# Altium footprint library LT3030HUFDPBF.PcbLib: 3 footprints
Each footprint in its own frame and in the unit in brackets; x right, y up, seen from the top. Pads: shape width x height; smd on the part's side, far side on the other; paste and mask are expansions set on the pad; w line width, h text height; cw(c..) or ccw(c..) is an arc to the next point about the centre after c.
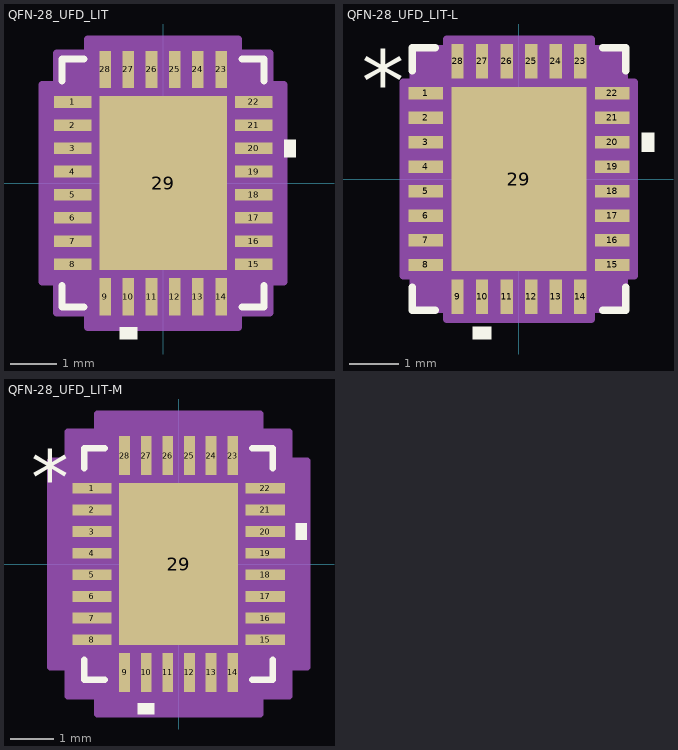
[diagram p0: the footprints below, top view; thin cyan lines are the x and y axes]

## QFN-28_UFD_LIT [mm]
pads (29):
  rect 0.805x0.249 smd paste+0 mask+0: 1(-1.952,1.75) 2(-1.952,1.25) 3(-1.952,0.75) 4(-1.952,0.25) 5(-1.952,-0.25) 6(-1.952,-0.75) 7(-1.952,-1.25) 8(-1.952,-1.75) 15(1.952,-1.75) 16(1.952,-1.25) 17(1.952,-0.75) 18(1.952,-0.25) 19(1.952,0.25) 20(1.952,0.75) 21(1.952,1.25) 22(1.952,1.75)
  rect 0.249x0.805 smd paste+0 mask+0: 9(-1.25,-2.452) 10(-0.75,-2.452) 11(-0.25,-2.452) 12(0.25,-2.452) 13(0.75,-2.452) 14(1.25,-2.452) 23(1.25,2.452) 24(0.75,2.452) 25(0.25,2.452) 26(-0.25,2.452) 27(-0.75,2.452) 28(-1.25,2.452)
  rect 2.75x3.75 smd paste-1.375 mask+0: 29(0,0)
Top Overlay:
  region: 2.609,0.941 2.863,0.941 2.863,0.56 2.609,0.56
  region: -0.56,-3.109 -0.941,-3.109 -0.941,-3.363 -0.56,-3.363
  lines w0.152: -2.177,-2.207 -2.177,-2.677 -1.707,-2.677 ; -2.177,2.207 -2.177,2.677 -1.707,2.677 ; 1.707,-2.677 2.177,-2.677 2.177,-2.207 ; 1.707,2.677 2.177,2.677 2.177,2.207
Top Paste:
  region: 1.275,-0.1 0.1,-0.1 0.1,-1.775 1.275,-1.775
  region: 1.275,1.775 0.1,1.775 0.1,0.1 1.275,0.1
  region: -0.1,-0.1 -1.275,-0.1 -1.275,-1.775 -0.1,-1.775
  region: -0.1,1.775 -1.275,1.775 -1.275,0.1 -0.1,0.1
Mechanical 13:
  lines w0.025: -2.05,1.28 -0.78,2.55 ; -2.05,-2.55 -2.05,2.55 2.05,2.55 2.05,-2.55 -2.05,-2.55 ; -2.05,-1.9 -2.05,-1.6 -2.05,-1.9 ; -2.05,-1.4 -2.05,-1.1 -2.05,-1.4 ; -2.05,-0.9 -2.05,-0.6 -2.05,-0.9 ; -2.05,-0.4 -2.05,-0.1 -2.05,-0.4 ; -2.05,0.1 -2.05,0.4 -2.05,0.1 ; -2.05,0.6 -2.05,0.9 -2.05,0.6 ; -2.05,1.1 -2.05,1.4 -2.05,1.1 ; -2.05,1.6 -2.05,1.9 -2.05,1.6 ; -1.4,-2.55 -1.1,-2.55 -1.4,-2.55 ; -1.4,2.55 -1.1,2.55 -1.4,2.55 ; -0.9,-2.55 -0.6,-2.55 -0.9,-2.55 ; -0.9,2.55 -0.6,2.55 -0.9,2.55 ; -0.4,-2.55 -0.1,-2.55 -0.4,-2.55 ; -0.4,2.55 -0.1,2.55 -0.4,2.55 ; 0.1,-2.55 0.4,-2.55 0.1,-2.55 ; 0.1,2.55 0.4,2.55 0.1,2.55 ; 0.6,-2.55 0.9,-2.55 0.6,-2.55 ; 0.6,2.55 0.9,2.55 0.6,2.55 ; 1.1,-2.55 1.4,-2.55 1.1,-2.55 ; 1.1,2.55 1.4,2.55 1.1,2.55 ; 2.05,-1.9 2.05,-1.6 2.05,-1.9 ; 2.05,-1.4 2.05,-1.1 2.05,-1.4 ; 2.05,-0.9 2.05,-0.6 2.05,-0.9 ; 2.05,-0.4 2.05,-0.1 2.05,-0.4 ; 2.05,0.1 2.05,0.4 2.05,0.1 ; 2.05,0.6 2.05,0.9 2.05,0.6 ; 2.05,1.1 2.05,1.4 2.05,1.1 ; 2.05,1.6 2.05,1.9 2.05,1.6
  text "*" at -1.867,1.365 h1.27
Mechanical 15:
  region: -1.629,-2.804 -2.304,-2.804 -2.304,-2.129 -2.609,-2.129 -2.609,2.129 -2.304,2.129 -2.304,2.804 -1.629,2.804 -1.629,3.109 1.629,3.109 1.629,2.804 2.304,2.804 2.304,2.129 2.609,2.129 2.609,-2.129 2.304,-2.129 2.304,-2.804 1.629,-2.804 1.629,-3.109 -1.629,-3.109
  lines w0.152: -2.609,-2.129 -2.609,2.129 -2.304,2.129 -2.304,2.804 -1.629,2.804 -1.629,3.109 1.629,3.109 1.629,2.804 2.304,2.804 2.304,2.129 2.609,2.129 2.609,-2.129 2.304,-2.129 2.304,-2.804 1.629,-2.804 1.629,-3.109 -1.629,-3.109 -1.629,-2.804 -2.304,-2.804 -2.304,-2.129 -2.609,-2.129
3D body "QFN-28_UFD_LIT.step": height 0.8, standoff 0, extent -2.05,-2.55 2.05,2.55

## QFN-28_UFD_LIT-L [mm]
pads (29):
  rect 0.703x0.249 smd paste+0 mask+0: 1(-1.902,1.75) 2(-1.902,1.25) 3(-1.902,0.75) 4(-1.902,0.25) 5(-1.902,-0.25) 6(-1.902,-0.75) 7(-1.902,-1.25) 8(-1.902,-1.75) 15(1.902,-1.75) 16(1.902,-1.25) 17(1.902,-0.75) 18(1.902,-0.25) 19(1.902,0.25) 20(1.902,0.75) 21(1.902,1.25) 22(1.902,1.75)
  rect 0.249x0.703 smd paste+0 mask+0: 9(-1.25,-2.402) 10(-0.75,-2.402) 11(-0.25,-2.402) 12(0.25,-2.402) 13(0.75,-2.402) 14(1.25,-2.402) 23(1.25,2.402) 24(0.75,2.402) 25(0.25,2.402) 26(-0.25,2.402) 27(-0.75,2.402) 28(-1.25,2.402)
  rect 2.75x3.75 smd paste-1.375 mask+0: 29(0,0)
Top Overlay:
  region: -0.56,-3.007 -0.941,-3.007 -0.941,-3.261 -0.56,-3.261
  region: 2.507,0.941 2.761,0.941 2.761,0.56 2.507,0.56
  lines w0.152: -2.177,-2.207 -2.177,-2.677 -1.707,-2.677 ; -2.177,2.207 -2.177,2.677 -1.707,2.677 ; 1.707,-2.677 2.177,-2.677 2.177,-2.207 ; 1.707,2.677 2.177,2.677 2.177,2.207
  text "*" at -3.206,1.365 h1.27
Top Paste:
  region: -0.1,1.775 -1.275,1.775 -1.275,0.1 -0.1,0.1
  region: -0.1,-0.1 -1.275,-0.1 -1.275,-1.775 -0.1,-1.775
  region: 1.275,1.775 0.1,1.775 0.1,0.1 1.275,0.1
  region: 1.275,-0.1 0.1,-0.1 0.1,-1.775 1.275,-1.775
Mechanical 13:
  lines w0.025: -2.05,1.28 -0.78,2.55 ; -2.05,-2.55 2.05,-2.55 ; -2.05,-2.55 -2.05,2.55 ; -2.05,-2.55 -2.05,-2.55 ; -2.05,-1.9 -2.05,-1.6 ; -2.05,-1.9 -2.05,-1.6 ; -2.05,-1.9 -2.05,-1.9 ; -2.05,-1.6 -2.05,-1.6 ; -2.05,-1.4 -2.05,-1.1 ; -2.05,-1.4 -2.05,-1.1 ; -2.05,-1.4 -2.05,-1.4 ; -2.05,-1.1 -2.05,-1.1 ; -2.05,-0.9 -2.05,-0.6 ; -2.05,-0.9 -2.05,-0.6 ; -2.05,-0.9 -2.05,-0.9 ; -2.05,-0.6 -2.05,-0.6 ; -2.05,-0.4 -2.05,-0.1 ; -2.05,-0.4 -2.05,-0.1 ; -2.05,-0.4 -2.05,-0.4 ; -2.05,-0.1 -2.05,-0.1 ; -2.05,0.1 -2.05,0.4 ; -2.05,0.1 -2.05,0.4 ; -2.05,0.1 -2.05,0.1 ; -2.05,0.4 -2.05,0.4 ; -2.05,0.6 -2.05,0.9 ; -2.05,0.6 -2.05,0.9 ; -2.05,0.6 -2.05,0.6 ; -2.05,0.9 -2.05,0.9 ; -2.05,1.1 -2.05,1.4 ; -2.05,1.1 -2.05,1.4 ; -2.05,1.1 -2.05,1.1 ; -2.05,1.4 -2.05,1.4 ; -2.05,1.6 -2.05,1.9 ; -2.05,1.6 -2.05,1.9 ; -2.05,1.6 -2.05,1.6 ; -2.05,1.9 -2.05,1.9 ; -2.05,2.55 2.05,2.55 ; -2.05,2.55 -2.05,2.55 ; -1.4,-2.55 -1.1,-2.55 ; -1.4,-2.55 -1.4,-2.55 ; -1.4,-2.55 -1.1,-2.55 ; -1.4,2.55 -1.1,2.55 ; -1.4,2.55 -1.1,2.55 ; -1.4,2.55 -1.4,2.55 ; -1.1,-2.55 -1.1,-2.55 ; -1.1,2.55 -1.1,2.55 ; -0.9,-2.55 -0.6,-2.55 ; -0.9,-2.55 -0.9,-2.55 ; -0.9,-2.55 -0.6,-2.55 ; -0.9,2.55 -0.6,2.55 ; -0.9,2.55 -0.6,2.55 ; -0.9,2.55 -0.9,2.55 ; -0.6,-2.55 -0.6,-2.55 ; -0.6,2.55 -0.6,2.55 ; -0.4,-2.55 -0.1,-2.55 ; -0.4,-2.55 -0.4,-2.55 ; -0.4,-2.55 -0.1,-2.55 ; -0.4,2.55 -0.1,2.55 ; -0.4,2.55 -0.1,2.55 ; -0.4,2.55 -0.4,2.55 ; -0.1,-2.55 -0.1,-2.55 ; -0.1,2.55 -0.1,2.55 ; 0.1,-2.55 0.4,-2.55 ; 0.1,-2.55 0.1,-2.55 ; 0.1,-2.55 0.4,-2.55 ; 0.1,2.55 0.4,2.55 ; 0.1,2.55 0.4,2.55 ; 0.1,2.55 0.1,2.55 ; 0.4,-2.55 0.4,-2.55 ; 0.4,2.55 0.4,2.55 ; 0.6,-2.55 0.9,-2.55 ; 0.6,-2.55 0.6,-2.55 ; 0.6,-2.55 0.9,-2.55 ; 0.6,2.55 0.9,2.55 ; 0.6,2.55 0.9,2.55 ; 0.6,2.55 0.6,2.55 ; 0.9,-2.55 0.9,-2.55 ; 0.9,2.55 0.9,2.55 ; 1.1,-2.55 1.4,-2.55 ; 1.1,-2.55 1.1,-2.55 ; 1.1,-2.55 1.4,-2.55 ; 1.1,2.55 1.4,2.55 ; 1.1,2.55 1.4,2.55 ; 1.1,2.55 1.1,2.55 ; 1.4,-2.55 1.4,-2.55 ; 1.4,2.55 1.4,2.55 ; 2.05,-2.55 2.05,-2.55 ; 2.05,-2.55 2.05,2.55 ; 2.05,-1.9 2.05,-1.6 ; 2.05,-1.9 2.05,-1.9 ; 2.05,-1.9 2.05,-1.6 ; 2.05,-1.6 2.05,-1.6 ; 2.05,-1.4 2.05,-1.1 ; 2.05,-1.4 2.05,-1.4 ; 2.05,-1.4 2.05,-1.1 ; 2.05,-1.1 2.05,-1.1 ; 2.05,-0.9 2.05,-0.6 ; 2.05,-0.9 2.05,-0.9 ; 2.05,-0.9 2.05,-0.6 ; 2.05,-0.6 2.05,-0.6 ; 2.05,-0.4 2.05,-0.1 ; 2.05,-0.4 2.05,-0.4 ; 2.05,-0.4 2.05,-0.1 ; 2.05,-0.1 2.05,-0.1 ; 2.05,0.1 2.05,0.4 ; 2.05,0.1 2.05,0.1 ; 2.05,0.1 2.05,0.4 ; 2.05,0.4 2.05,0.4 ; 2.05,0.6 2.05,0.9 ; 2.05,0.6 2.05,0.6 ; 2.05,0.6 2.05,0.9 ; 2.05,0.9 2.05,0.9 ; 2.05,1.1 2.05,1.4 ; 2.05,1.1 2.05,1.1 ; 2.05,1.1 2.05,1.4 ; 2.05,1.4 2.05,1.4 ; 2.05,1.6 2.05,1.9 ; 2.05,1.6 2.05,1.6 ; 2.05,1.6 2.05,1.9 ; 2.05,1.9 2.05,1.9 ; 2.05,2.55 2.05,2.55
  text "*" at -1.867,1.365 h1.27
Mechanical 15:
  region: -1.476,-2.652 -2.152,-2.652 -2.152,-1.976 -2.355,-1.976 -2.355,1.976 -2.152,1.976 -2.152,2.652 -1.476,2.652 -1.476,2.855 1.476,2.855 1.476,2.652 2.152,2.652 2.152,1.976 2.355,1.976 2.355,-1.976 2.152,-1.976 2.152,-2.652 1.476,-2.652 1.476,-2.855 -1.476,-2.855
  lines w0.152: -2.355,-1.976 -2.152,-1.976 -2.152,-2.652 -1.476,-2.652 -1.476,-2.855 1.476,-2.855 1.476,-2.652 2.152,-2.652 2.152,-1.976 2.355,-1.976 2.355,1.976 2.152,1.976 2.152,2.652 1.476,2.652 1.476,2.855 -1.476,2.855 -1.476,2.652 -2.152,2.652 -2.152,1.976 -2.355,1.976 -2.355,-1.976
3D body "QFN-28_UFD_LIT.step": height 0.8, standoff 0, extent -2.05,-2.55 2.05,2.55

## QFN-28_UFD_LIT-M [mm]
pads (29):
  rect 0.906x0.249 smd paste+0 mask+0: 1(-2.003,1.75) 2(-2.003,1.25) 3(-2.003,0.75) 4(-2.003,0.25) 5(-2.003,-0.25) 6(-2.003,-0.75) 7(-2.003,-1.25) 8(-2.003,-1.75) 15(2.003,-1.75) 16(2.003,-1.25) 17(2.003,-0.75) 18(2.003,-0.25) 19(2.003,0.25) 20(2.003,0.75) 21(2.003,1.25) 22(2.003,1.75)
  rect 0.249x0.906 smd paste+0 mask+0: 9(-1.25,-2.503) 10(-0.75,-2.503) 11(-0.25,-2.503) 12(0.25,-2.503) 13(0.75,-2.503) 14(1.25,-2.503) 23(1.25,2.503) 24(0.75,2.503) 25(0.25,2.503) 26(-0.25,2.503) 27(-0.75,2.503) 28(-1.25,2.503)
  rect 2.75x3.75 smd paste-1.375 mask+0: 29(0,0)
Top Overlay:
  region: -0.56,-3.21 -0.941,-3.21 -0.941,-3.464 -0.56,-3.464
  region: 2.71,0.941 2.964,0.941 2.964,0.56 2.71,0.56
  lines w0.152: -2.177,-2.207 -2.177,-2.677 -1.707,-2.677 ; -2.177,2.207 -2.177,2.677 -1.707,2.677 ; 1.707,-2.677 2.177,-2.677 2.177,-2.207 ; 1.707,2.677 2.177,2.677 2.177,2.207
  text "*" at -3.409,1.365 h1.27
Top Paste:
  region: -0.1,1.775 -1.275,1.775 -1.275,0.1 -0.1,0.1
  region: -0.1,-0.1 -1.275,-0.1 -1.275,-1.775 -0.1,-1.775
  region: 1.275,1.775 0.1,1.775 0.1,0.1 1.275,0.1
  region: 1.275,-0.1 0.1,-0.1 0.1,-1.775 1.275,-1.775
Mechanical 13:
  lines w0.025: -2.05,1.28 -0.78,2.55 ; -2.05,-2.55 2.05,-2.55 ; -2.05,-2.55 -2.05,2.55 ; -2.05,-2.55 -2.05,-2.55 ; -2.05,-1.9 -2.05,-1.6 ; -2.05,-1.9 -2.05,-1.6 ; -2.05,-1.9 -2.05,-1.9 ; -2.05,-1.6 -2.05,-1.6 ; -2.05,-1.4 -2.05,-1.1 ; -2.05,-1.4 -2.05,-1.1 ; -2.05,-1.4 -2.05,-1.4 ; -2.05,-1.1 -2.05,-1.1 ; -2.05,-0.9 -2.05,-0.6 ; -2.05,-0.9 -2.05,-0.6 ; -2.05,-0.9 -2.05,-0.9 ; -2.05,-0.6 -2.05,-0.6 ; -2.05,-0.4 -2.05,-0.1 ; -2.05,-0.4 -2.05,-0.1 ; -2.05,-0.4 -2.05,-0.4 ; -2.05,-0.1 -2.05,-0.1 ; -2.05,0.1 -2.05,0.4 ; -2.05,0.1 -2.05,0.4 ; -2.05,0.1 -2.05,0.1 ; -2.05,0.4 -2.05,0.4 ; -2.05,0.6 -2.05,0.9 ; -2.05,0.6 -2.05,0.9 ; -2.05,0.6 -2.05,0.6 ; -2.05,0.9 -2.05,0.9 ; -2.05,1.1 -2.05,1.4 ; -2.05,1.1 -2.05,1.4 ; -2.05,1.1 -2.05,1.1 ; -2.05,1.4 -2.05,1.4 ; -2.05,1.6 -2.05,1.9 ; -2.05,1.6 -2.05,1.9 ; -2.05,1.6 -2.05,1.6 ; -2.05,1.9 -2.05,1.9 ; -2.05,2.55 2.05,2.55 ; -2.05,2.55 -2.05,2.55 ; -1.4,-2.55 -1.1,-2.55 ; -1.4,-2.55 -1.4,-2.55 ; -1.4,-2.55 -1.1,-2.55 ; -1.4,2.55 -1.1,2.55 ; -1.4,2.55 -1.1,2.55 ; -1.4,2.55 -1.4,2.55 ; -1.1,-2.55 -1.1,-2.55 ; -1.1,2.55 -1.1,2.55 ; -0.9,-2.55 -0.6,-2.55 ; -0.9,-2.55 -0.9,-2.55 ; -0.9,-2.55 -0.6,-2.55 ; -0.9,2.55 -0.6,2.55 ; -0.9,2.55 -0.6,2.55 ; -0.9,2.55 -0.9,2.55 ; -0.6,-2.55 -0.6,-2.55 ; -0.6,2.55 -0.6,2.55 ; -0.4,-2.55 -0.1,-2.55 ; -0.4,-2.55 -0.4,-2.55 ; -0.4,-2.55 -0.1,-2.55 ; -0.4,2.55 -0.1,2.55 ; -0.4,2.55 -0.1,2.55 ; -0.4,2.55 -0.4,2.55 ; -0.1,-2.55 -0.1,-2.55 ; -0.1,2.55 -0.1,2.55 ; 0.1,-2.55 0.4,-2.55 ; 0.1,-2.55 0.1,-2.55 ; 0.1,-2.55 0.4,-2.55 ; 0.1,2.55 0.4,2.55 ; 0.1,2.55 0.4,2.55 ; 0.1,2.55 0.1,2.55 ; 0.4,-2.55 0.4,-2.55 ; 0.4,2.55 0.4,2.55 ; 0.6,-2.55 0.9,-2.55 ; 0.6,-2.55 0.6,-2.55 ; 0.6,-2.55 0.9,-2.55 ; 0.6,2.55 0.9,2.55 ; 0.6,2.55 0.9,2.55 ; 0.6,2.55 0.6,2.55 ; 0.9,-2.55 0.9,-2.55 ; 0.9,2.55 0.9,2.55 ; 1.1,-2.55 1.4,-2.55 ; 1.1,-2.55 1.1,-2.55 ; 1.1,-2.55 1.4,-2.55 ; 1.1,2.55 1.4,2.55 ; 1.1,2.55 1.4,2.55 ; 1.1,2.55 1.1,2.55 ; 1.4,-2.55 1.4,-2.55 ; 1.4,2.55 1.4,2.55 ; 2.05,-2.55 2.05,-2.55 ; 2.05,-2.55 2.05,2.55 ; 2.05,-1.9 2.05,-1.6 ; 2.05,-1.9 2.05,-1.9 ; 2.05,-1.9 2.05,-1.6 ; 2.05,-1.6 2.05,-1.6 ; 2.05,-1.4 2.05,-1.1 ; 2.05,-1.4 2.05,-1.4 ; 2.05,-1.4 2.05,-1.1 ; 2.05,-1.1 2.05,-1.1 ; 2.05,-0.9 2.05,-0.6 ; 2.05,-0.9 2.05,-0.9 ; 2.05,-0.9 2.05,-0.6 ; 2.05,-0.6 2.05,-0.6 ; 2.05,-0.4 2.05,-0.1 ; 2.05,-0.4 2.05,-0.4 ; 2.05,-0.4 2.05,-0.1 ; 2.05,-0.1 2.05,-0.1 ; 2.05,0.1 2.05,0.4 ; 2.05,0.1 2.05,0.1 ; 2.05,0.1 2.05,0.4 ; 2.05,0.4 2.05,0.4 ; 2.05,0.6 2.05,0.9 ; 2.05,0.6 2.05,0.6 ; 2.05,0.6 2.05,0.9 ; 2.05,0.9 2.05,0.9 ; 2.05,1.1 2.05,1.4 ; 2.05,1.1 2.05,1.1 ; 2.05,1.1 2.05,1.4 ; 2.05,1.4 2.05,1.4 ; 2.05,1.6 2.05,1.9 ; 2.05,1.6 2.05,1.6 ; 2.05,1.6 2.05,1.9 ; 2.05,1.9 2.05,1.9 ; 2.05,2.55 2.05,2.55
  text "*" at -1.867,1.365 h1.27
Mechanical 15:
  region: -1.883,-3.058 -2.558,-3.058 -2.558,-2.383 -2.964,-2.383 -2.964,2.383 -2.558,2.383 -2.558,3.058 -1.883,3.058 -1.883,3.464 1.883,3.464 1.883,3.058 2.558,3.058 2.558,2.383 2.964,2.383 2.964,-2.383 2.558,-2.383 2.558,-3.058 1.883,-3.058 1.883,-3.464 -1.883,-3.464
  lines w0.152: -2.964,-2.383 -2.558,-2.383 -2.558,-3.058 -1.883,-3.058 -1.883,-3.464 1.883,-3.464 1.883,-3.058 2.558,-3.058 2.558,-2.383 2.964,-2.383 2.964,2.383 2.558,2.383 2.558,3.058 1.883,3.058 1.883,3.464 -1.883,3.464 -1.883,3.058 -2.558,3.058 -2.558,2.383 -2.964,2.383 -2.964,-2.383
3D body "QFN-28_UFD_LIT.step": height 0.8, standoff 0, extent -2.05,-2.55 2.05,2.55